# Altium schematic symbol library Schlib1.SchLib: 14 symbols
Pins are listed as number, name and electrical type; pins without a type are passive.

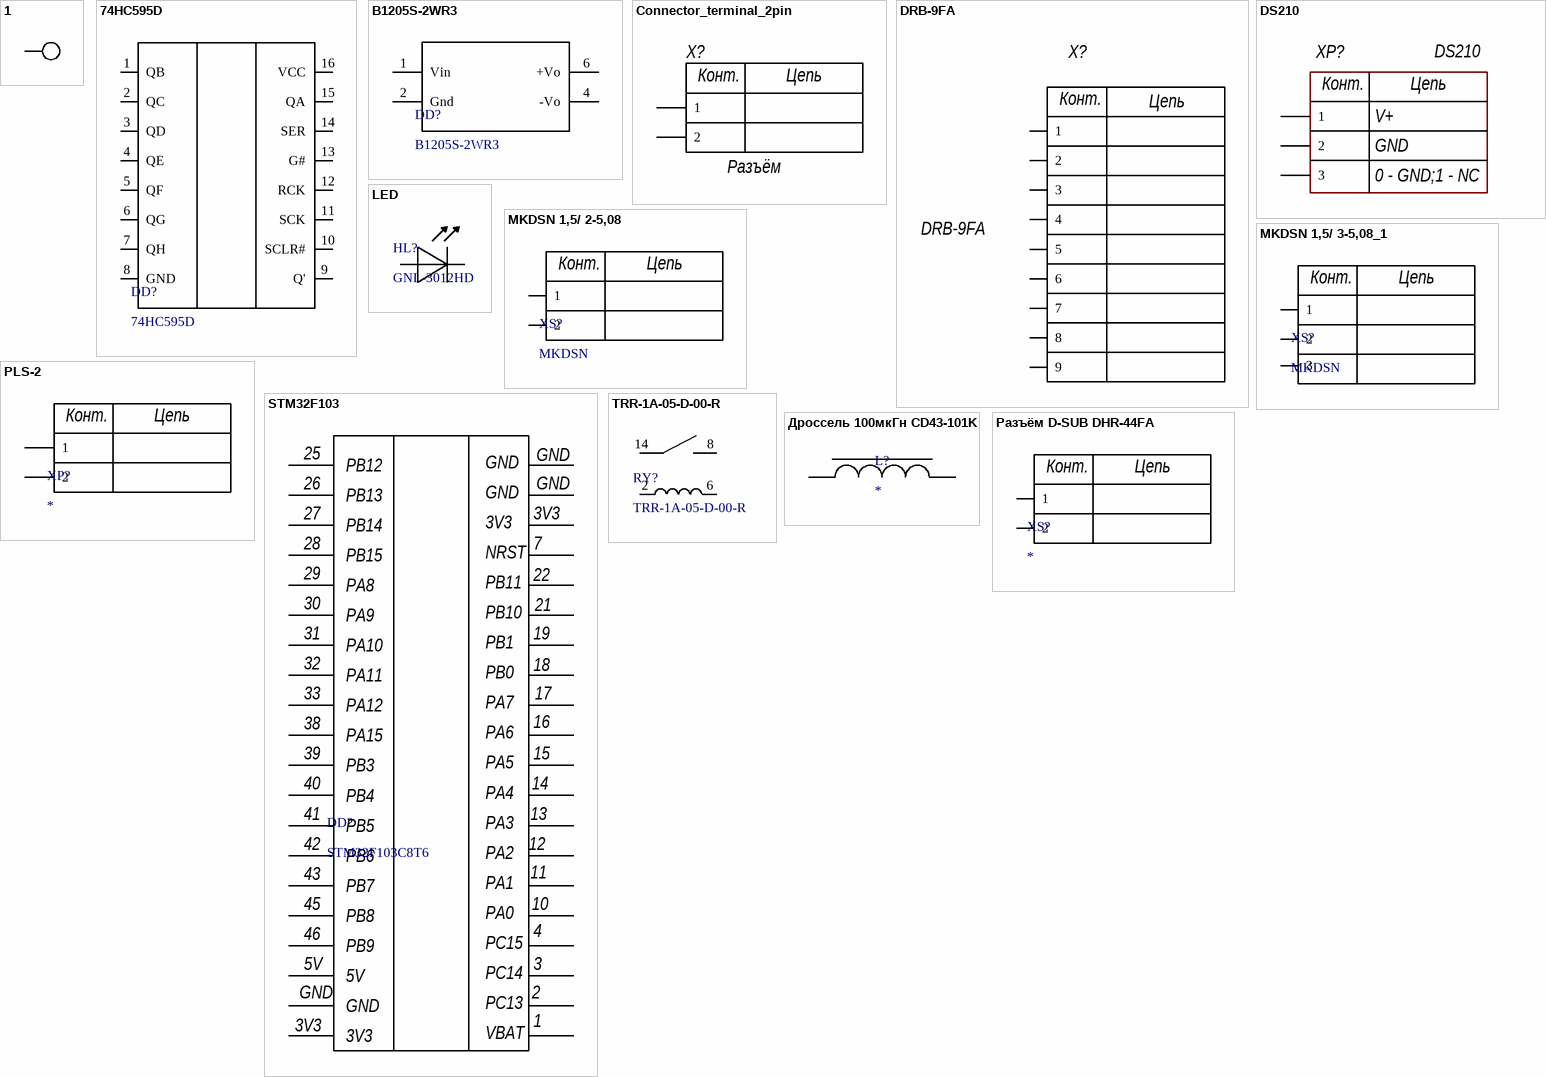
[diagram p0: symbols 1 to Разъём D-SUB DHR-44FA]

## 1
designator Point?  (value not drawn)
footprint Point
pins: 1

## 74HC595D
designator DD?
footprint 74HC595D
pins: 1 QB "Информационный вход Х6", 2 QC "Информационный вход Х6", 3 QD "Информационный вход Х6", 4 QE "Информационный вход Х6", 5 QF "Информационный вход Х6", 6 QG "Информационный вход Х6", 7 QH "Информационный вход Х6", 8 GND "Информационный вход Х6", 9 Q' "Информационный вход Х6", 10 SCLR# "Информационный вход Х6", 11 SCK "Информационный вход Х6", 12 RCK "Информационный вход Х6", 13 G# "Информационный вход Х6", 14 SER "Информационный вход Х6", 15 QA "Информационный вход Х6", 16 VCC "Информационный вход Х6"

## B1205S-2WR3
designator DD?
footprint B1205S-2WR3
pins: 1 Vin, 2 Gnd, 4 -Vo, 6 +Vo

## Connector_terminal_2pin
designator X?, comment Разъём
Наименование: DG350-3.5-02P-14
footprint CON: DG271R-5.0-02P
footprint CON: SMA-KWHD (SMA угловой на плату)
footprint CON: SMA-KWHD - duplicate (SMA угловой на плату)
pins: 1, 2
text: Конт.; Цепь

## DRB-9FA
designator X?
Наименование: DRB-9FA
footprint CON: DB-9F
pins: 1, 2, 3 (power), 4 (power), 5 (power), 6 (power), 7 (power), 8 (power), 9 (power)
text: Конт.; Цепь

## DS210
designator XP?
Valuerus: DS210; Value: DS210
footprint CON: DS210
pins: 1, 2, 3
text: Конт.; Цепь; V+; GND; 0 - GND;1 - NC

## LED
designator HL?, comment GNL-3012HD
footprint led
footprint led green
pins: 1 A, 2 C

## MKDSN 1,5/ 2-5,08
designator XS?, comment MKDSN
footprint MKDSN 1,5/ 2-5,08
pins: 1, 2
text: Конт.; Цепь

## MKDSN 1,5/ 3-5,08_1
designator XS?, comment MKDSN
footprint MKDSN 1,5/ 3-5,08
pins: 1, 2, 3
text: Конт.; Цепь

## PLS-2
designator XP?
pins: 1, 2
text: Конт.; Цепь

## STM32F103
designator DD?, comment STM32F103C8T6
footprint STM32F103C8T6
footprint STM32F103C8T6 - duplicate
pins: 1 Vbat, 2 PC13, 3 PC14, 4 PC15, 5V, 7 NRST, 10 PA0, 11 PA1, 12 PA2, 13 PA3, 14 PA4, 15 PA5, 16 PA6, 17 PA7, 18 PB0, 19 PB1, 21 PB10, 22 PB11, 25 PB12, 26 PB13, 27 PB14, 28 PB15, 29 PA8, 30 PA9, 31 PA10, 32 PA11, 33 PA12, 38 PA15, 39 PB3, 40 PB4, 41 PB5, 42 PB6, 43 PB7, 45 PB8, 46 PB9, A1 3V3, A2 3V3, GND, GND, GND
text: VBAT

## TRR-1A-05-D-00-R
designator RY?
footprint TRR-1A-05-D-00-R
pins: 2, 6, 8, 14

## Дроссель 100мкГн CD43-101K
designator L?
footprint 100мкГн
pins: 1, 2

## Разъём D-SUB DHR-44FA
designator XS?
pins: 1, 2
text: Конт.; Цепь